# EAGLE library part MC1320X_AND_NRF24L01 (library Nordic Semiconductors 2.4GHz Transceiver)
With this Device, it is possible to use the NRF24L01 or the MC1320x 802.15.4 transceiver
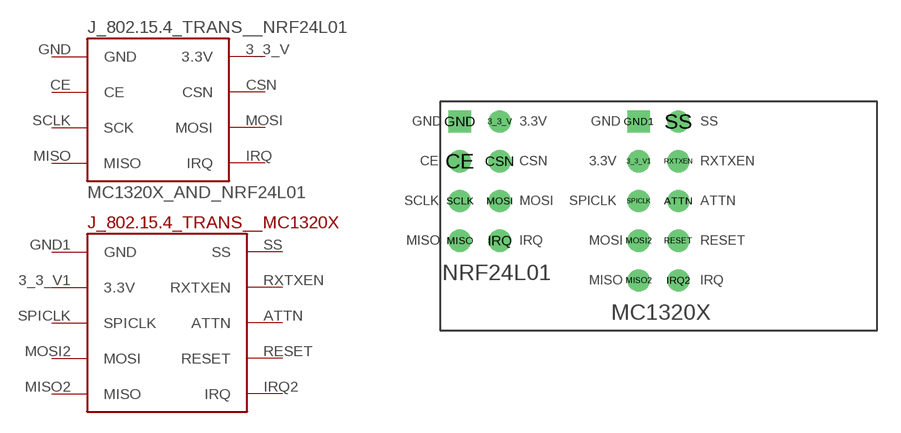
[diagram p1: symbol with the pads of MC1320X_AND_NRF24L01_FOOTPRINT; footprint MC1320X_AND_NRF24L01_FOOTPRINT]

Designator prefix J_802.15.4_TRANS_; gates _MC1320X=MC1320X_RF_DAUGHTER_CARD _NRF24L01=NRF24L01_MODULE_SCHEMATIC

## MC1320X_AND_NRF24L01  [MC1320X_AND_NRF24L01_FOOTPRINT]
3_3_V  _NRF24L01:3.3V
3_3_V1  _MC1320X:3.3V
ATTN  _MC1320X:ATTN
CE  _NRF24L01:CE
CSN  _NRF24L01:CSN
GND  _NRF24L01:GND
GND1  _MC1320X:GND
IRQ  _NRF24L01:IRQ
IRQ2  _MC1320X:IRQ
MISO  _NRF24L01:MISO
MISO2  _MC1320X:MISO
MOSI  _NRF24L01:MOSI
MOSI2  _MC1320X:MOSI
RESET  _MC1320X:RESET
RXTXEN  _MC1320X:RXTXEN
SCLK  _NRF24L01:SCK
SPICLK  _MC1320X:SPICLK
SS  _MC1320X:SS

## Footprint MC1320X_AND_NRF24L01_FOOTPRINT (pad centres in mm)
With this Footprint, it is possible to use the NRF24L01 or the MC1320x 802.15.4 transceiver
drill 0.9 pad 1.422: 3_3_V -11.43,6.35; 3_3_V1 -2.54,3.81; ATTN 0,1.27; CE -13.97,3.81; CSN -11.43,3.81; IRQ -11.43,-1.27; IRQ2 0,-3.81; MISO -13.97,-1.27; MISO2 -2.54,-3.81; MOSI -11.43,1.27; MOSI2 -2.54,-1.27; RESET 0,-1.27; RXTXEN 0,3.81; SCLK -13.97,1.27; SPICLK -2.54,1.27; SS 0,6.35
drill 0.9 pad 1.422 square: GND -13.97,6.35; GND1 -2.54,6.35